# EAGLE library part WE-DS_240117113 (library wurth_elektronik_passive_rev16d)
WE-DS D-SUB-Filter Connectors Bent 90° Characteristics Standard type filtered with 1000 pF High attenuation of more than 40 dB @ 180 MHz Low size: 6.3 mm Rated voltage: 125 VDC Rated current @ 20 ºC: 5 A Withstand voltage: 250 VRMS Insulation resistance: min. 1000 MΩ Operating temperature: –55 ºC to +125 ºC Applications Filtering of interfaces External connection to -printer -sensor -display <http://katalog.we-online.de/media/thumbs2/eisos/thb_AbsDSubFilter_SMD_pf2.jpg> Details see: http://katalog.we-online.de/en/pbs/D-SUB-Filter Bent 90° <http://katalog.we-online.de/en/pbs/Filter_SMD?sid=29b915c42a> Created on 2015-05-04 2015 (C) Wurth Elektronik
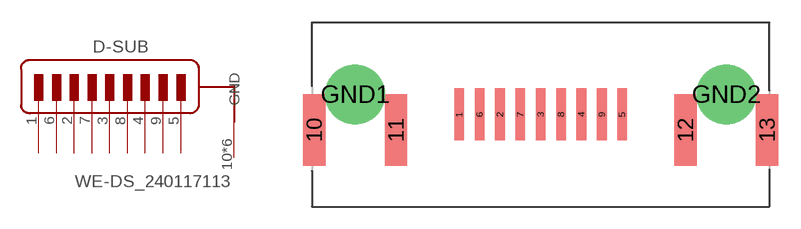
[diagram p204: symbol with the pads of WE-DS_240117113; footprint WE-DS_240117113]

Designator prefix D-SUB

## WE-DS_240117113  [WE-DS_240117113]
1  1
2  2
3  3
4  4
5  5
6  6
7  7
8  8
9  9
10  GND
11  GND
12  GND
13  GND
GND1  GND
GND2  GND

## Footprint WE-DS_240117113 (pad centres in mm)
smd 0.65 x 3.5: 1 -5.48,0; 2 -2.74,0; 3 0,0; 4 2.74,0; 5 5.48,0; 6 -4.11,0; 7 -1.37,0; 8 1.37,0; 9 4.12,0
smd 1.5 x 4.8: 10 -15.25,-1.05; 11 -9.75,-1.05; 12 9.75,-1.05; 13 15.25,-1.05
drill 3 pad 3.9: GND1 -12.5,1.35; GND2 12.5,1.35